# Altium footprint library Wurth_Elektronik_Passive_rev16a.PCBLIB: 810 footprints (part 36 of 51)
Each footprint in its own frame and in the unit in brackets; x right, y up, seen from the top. Pads: shape width x height; smd on the part's side, far side on the other; paste and mask are expansions set on the pad; w line width, h text height; cw(c..) or ccw(c..) is an arc to the next point about the centre after c.
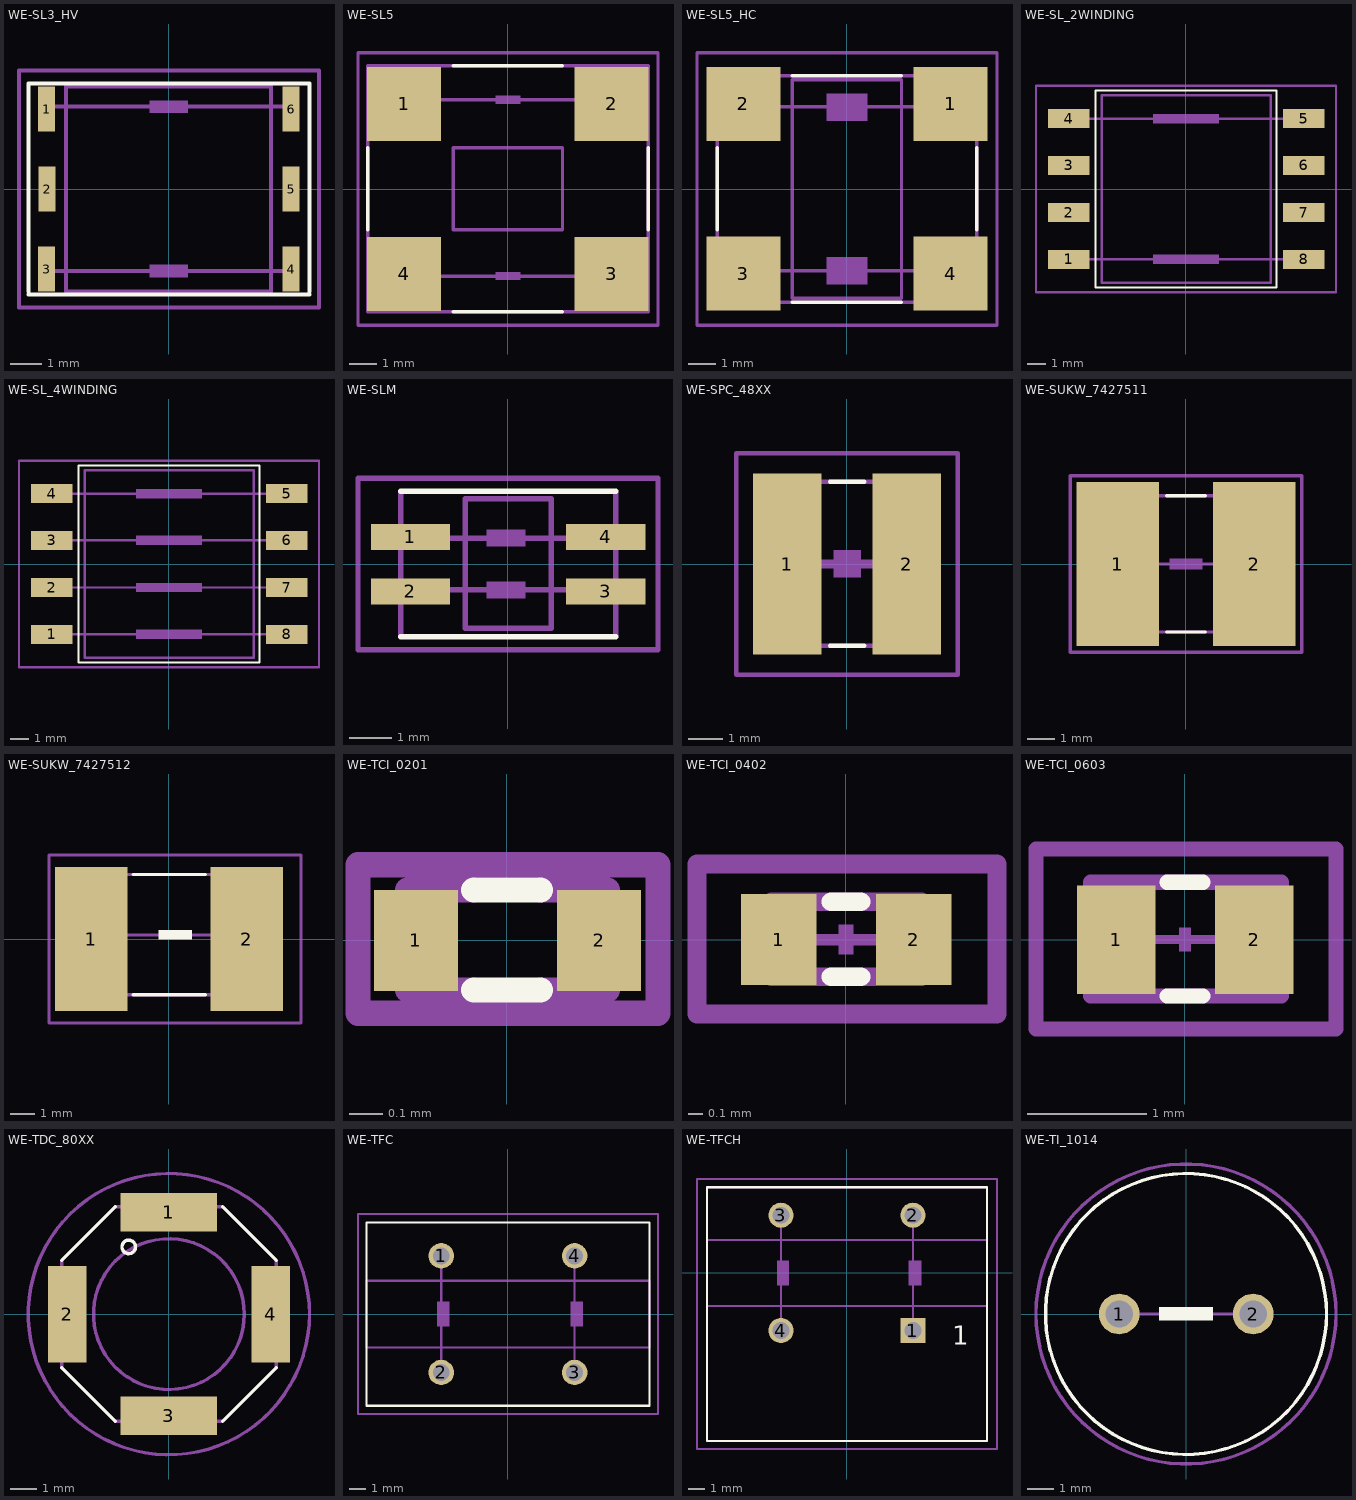
[diagram p35: the footprints below, top view; thin cyan lines are the x and y axes]

## WE-SL3_HV [mil]
pads (6):
  rect 21x56 smd: 1(-152.56,100) 2(-151.85,0) 3(-152.56,-100) 4(153,-100) 5(153,0) 6(153,100)
Top Overlay:
  lines w5: -175.2,-131.89 176,-131.89 ; -175.2,-127.95 -175.2,130 ; -175.2,132 176,132 ; 176,-127.95 176,130
Mechanical 2:
  text ">NAME" at -110.24,150 h77.5
Mechanical 4:
  text ">VALUE" at -110.24,-196.85 h77.5
Mechanical 10:
  lines w5: -127.95,-127.95 128,-127.95 128,128 -127.95,128 -127.95,-127.95
Mechanical 16:
  rectangle: -23.62,-110.24 24,-94.49
  rectangle: -23.62,95 24,111
  lines w5: -149.61,-102.36 -23.62,-102.36 ; -149.61,103 -23.62,103 ; 24,-102.36 150,-102.36 ; 24,103 150,103
Mechanical 27:
  lines w5: -187.01,-147.64 188,-147.64 188,148 -187.01,148 -187.01,-147.64

## WE-SL5 [mil]
pads (4):
  rect 107x107 smd: 1(-150,123) 2(150,123) 3(150,-122.44) 4(-150,-122.44)
Top Overlay:
  lines w5: -202.76,-59.06 -202.76,60 ; -78.74,-177.17 79,-177.17 ; -78.74,178 79,178 ; 203,-59.06 203,60
Mechanical 2:
  text ">NAME" at -200,200 h77.5
Mechanical 4:
  text ">VALUE" at -200,-250 h77.5
Mechanical 10:
  lines w5: -78.74,-59.06 79,-59.06 79,60 -78.74,60 -78.74,-59.06
Mechanical 16:
  rectangle: -17.72,123 18,135
  rectangle: -17.72,-131.5 18,-119.68
  lines w5: -153.15,-125.98 146,-125.98 ; -144.49,129 160,129 ; -202.76,-177.17 -202.76,178 203,178 203,-177.17 -202.76,-177.17
Mechanical 27:
  lines w5: -216.54,-196.85 217,-196.85 217,197 -216.54,197 -216.54,-196.85

## WE-SL5_HC [mil]
pads (4):
  rect 107x107 smd: 1(150,123) 2(-149.61,123) 3(-149.61,-122.05) 4(150,-122.05)
Top Overlay:
  lines w5: -187.01,-59.06 -187.01,60 ; -78.74,-163.39 79,-163.39 ; -78.74,164 79,164 ; 188,-59.06 188,60
Mechanical 2:
  text ">NAME" at -196.85,219 h77.5
Mechanical 4:
  text ">VALUE" at -196.85,-277.17 h77.5
Mechanical 10:
  lines w5: -78.74,-157.48 79,-157.48 79,158 -78.74,158 -78.74,-157.48
Mechanical 16:
  region: -29.34,138.34 -29.34,98.66 29.66,98.66 29.66,138.34
  region: -29.37,-98.27 -29.37,-137.95 29.69,-137.95 29.69,-98.27
  lines w5: -137.8,-118.11 138,-118.11 ; -137.8,119 138,119 ; -187.01,-163.39 -187.01,164 188,164 188,-163.39 -187.01,-163.39
Mechanical 27:
  lines w5: -216.54,-196.85 217,-196.85 217,197 -216.54,197 -216.54,-196.85

## WE-SL_2WINDING [mil]
pads (8):
  rect 87x40 smd: 1(-246.06,-147.64) 2(-246.06,-49.21) 3(-246.06,50) 4(-246.06,148) 5(247,148) 6(247,50) 7(247,-49.21) 8(247,-147.64)
Top Overlay:
  lines w5: -189.96,-206.69 190,-206.69 190,207 -189.96,207 -189.96,-206.69
Mechanical 2:
  text ">NAME" at 150,288 h77.5
Mechanical 4:
  text ">VALUE" at 150,-237.5 h77.5
Mechanical 10:
  lines w5: -177.17,-196.85 178,-196.85 178,197 -177.17,197 -177.17,-196.85
Mechanical 16:
  region: 69,-137.79 -68.9,-137.79 -68.9,-157.48 69,-157.48
  region: 69,158 -68.9,158 -68.9,138 69,138
  lines w5: -246.06,-147.64 247,-147.64 ; -246.06,148 247,148
Mechanical 27:
  lines w5: -314.96,-216.54 315,-216.54 315,217 -314.96,217 -314.96,-216.54

## WE-SL_4WINDING [mil]
pads (8):
  rect 87x40 smd: 1(-246.06,-147.64) 2(-246.06,-49.21) 3(-246.06,50) 4(-246.06,148) 5(247,148) 6(247,50) 7(247,-49.21) 8(247,-147.64)
Top Overlay:
  lines w5: -189.96,-206.69 190,-206.69 190,207 -189.96,207 -189.96,-206.69
Mechanical 2:
  text ">NAME" at 150,288 h77.5
Mechanical 4:
  text ">VALUE" at 150,-237.5 h77.5
Mechanical 10:
  lines w5: -177.17,-196.85 178,-196.85 178,197 -177.17,197 -177.17,-196.85
Mechanical 16:
  region: 69,-137.79 -68.9,-137.79 -68.9,-157.48 69,-157.48
  region: 69,-39.37 -68.9,-39.37 -68.9,-59.06 69,-59.06
  region: 69,60 -68.9,60 -68.9,40 69,40
  region: 69,158 -68.9,158 -68.9,138 69,138
  lines w5: -246.06,-147.64 247,-147.64 ; -246.06,-49.21 247,-49.21 ; -246.06,50 247,50 ; -246.06,148 247,148
Mechanical 27:
  lines w5: -314.96,-216.54 315,-216.54 315,217 -314.96,217 -314.96,-216.54

## WE-SLM [mil]
pads (4):
  rect 73x24 smd: 1(-89.57,25) 2(-89.57,-25) 3(90,-25) 4(90,25)
Top Overlay:
  lines w5: -98.43,-66.93 99,-66.93 ; -98.43,67 99,67
Mechanical 2:
  text ">NAME" at -141.73,99 h77.5
Mechanical 4:
  text ">VALUE" at -129.92,-145.67 h77.5
Mechanical 10:
  lines w5: -39.37,-59.06 40,-59.06 40,60 -39.37,60 -39.37,-59.06
Mechanical 16:
  rectangle: -19.68,16 16,32
  rectangle: -19.68,-31.5 16,-15.74
  lines w5: -98.43,-64.96 -98.43,65 ; -86.61,-23.62 87,-23.62 ; -86.61,24 87,24 ; 99,-64.96 99,65
Mechanical 27:
  lines w5: -137.8,-78.74 138,-78.74 138,79 -137.8,79 -137.8,-78.74

## WE-SPC_48XX [mil]
pads (2):
  rect 79x209 smd: 1(-68.9,0) 2(69,0)
Top Overlay:
  lines w5: -19.68,-94.49 20,-94.49 ; -19.68,95 20,95
Mechanical 2:
  text ">NAME" at -150,-200 h77.5
Mechanical 4:
  text ">VALUE" at -150,150 h77.5
Mechanical 16:
  region: 16,-15.75 16,16 -15.75,16 -15.75,-15.75
  lines w5: -94.49,-94.49 95,-94.49 95,95 -94.49,95 -94.49,-94.49
  lines w10: -68.9,0 69,0
Mechanical 27:
  lines w5: -127.95,-127.95 128,-127.95 128,128 -127.95,128 -127.95,-127.95

## WE-SUKW_7427511 [mil]
pads (2):
  rect 119x237 smd: 1(-98.43,0) 2(99,0)
Top Overlay:
  lines w5: -27.56,-98.43 28,-98.43 ; -27.56,99 28,99
Mechanical 2:
  text ">NAME" at -200,-225 h77.5
Mechanical 4:
  text ">VALUE" at -200,175 h77.5
Mechanical 16:
  rectangle: -23.62,-7.87 24,8
  lines w5: -137.8,-59.06 -137.8,-98.43 138,-98.43 138,-59.06 ; -137.8,60 -137.8,99 138,99 138,60 ; -98.43,0 99,0
Mechanical 27:
  lines w5: -167.32,-127.95 168,-127.95 168,128 -167.32,128 -167.32,-127.95

## WE-SUKW_7427512 [mil]
pads (2):
  rect 119x237 smd: 1(-127.95,0) 2(128,0)
Top Overlay:
  rectangle: -17.22,-0.98 38,15
  lines w5: -59.06,-91.54 60,-91.54 ; -59.06,106 60,106
Mechanical 2:
  text ">NAME" at -109.35,-194.09 h77.5
Mechanical 4:
  text ">VALUE" at -118.6,163 h77.5
Mechanical 16:
  lines w5: -117.62,7 137,7 ; -156.99,-91.54 178,-91.54 178,106 -156.99,106 -156.99,-91.54
Mechanical 27:
  lines w5: -196.85,-137.8 217,-137.8 217,138 -196.85,138 -196.85,-137.8

## WE-TCI_0201 [mil]
pads (2):
  rect 10x12 smd: 1(-10.83,0) 2(11,0)
Top Overlay:
  lines w3: -3.94,-5.91 4,-5.91 ; -3.94,6 4,6
Mechanical 2:
  text ">NAME" at -111.81,15 h77.5
Mechanical 4:
  text ">VALUE" at -115.75,-72.44 h77.5
Mechanical 16:
  lines w3: -3.94,-5.91 -11.81,-5.91 -11.81,6 -3.94,6 ; 4,-5.91 12,-5.91 12,6 4,6
Mechanical 27:
  lines w3: -17.72,-8.66 18,-8.66 18,9 -17.72,9 -17.72,-8.66

## WE-TCI_0402 [mil]
pads (2):
  rect 20x24 smd: 1(-17.72,0) 2(18,0)
Top Overlay:
  lines w5: -3.94,-9.84 4,-9.84 ; -3.94,10 4,10
Mechanical 2:
  text ">NAME" at -34.84,-34.84 h15.5
Mechanical 4:
  text ">VALUE" at -34.84,28 h15.5
Mechanical 16:
  region: 2.02,-3.95 2.02,3.98 -1.95,3.98 -1.95,-3.95
  lines w3: -17.72,0 18,0
  lines w5: -19.68,-9.84 20,-9.84 20,10 -19.68,10 -19.68,-9.84
Mechanical 27:
  lines w5: -39.37,-19.68 40,-19.68 40,20 -39.37,20 -39.37,-19.68

## WE-TCI_0603 [mil]
pads (2):
  rect 26x36 smd: 1(-22.64,0) 2(23,0)
Top Overlay:
  lines w5: -5.91,-18.62 6,-18.62 ; -5.91,19 6,19
Mechanical 2:
  text ">NAME" at -34.84,-47.34 h15.5
Mechanical 4:
  text ">VALUE" at -34.84,35 h15.5
Mechanical 16:
  region: 2.02,-3.95 2.02,3.98 -1.95,3.98 -1.95,-3.95
  lines w3: -22.64,0 23,0
  lines w5: -31.13,-18.62 32,-18.62 32,19 -31.13,19 -31.13,-18.62
Mechanical 27:
  lines w5: -49.21,-29.53 50,-29.53 50,30 -49.21,30 -49.21,-29.53

## WE-TDC_80XX [mil]
pads (4):
  rect 142x56 smd: 1(0,150) 3(0,-149.61)
  rect 56x142 smd: 2(-149.61,0) 4(150,0)
Top Overlay:
  circle w5: c-59.06,99 r10
  lines w5: -157.48,-78.74 -78.74,-157.48 ; -157.48,79 -78.74,158 ; 79,-157.48 158,-78.74 ; 79,158 158,79
Mechanical 2:
  text ">NAME" at -196.85,-118.11 h77.5
Mechanical 4:
  text ">VALUE" at 197,119 h77.5
Mechanical 10:
  circle w5: c0,0 r111
Mechanical 16:
  lines w5: -157.48,-78.74 -157.48,79 ; -78.74,-157.48 79,-157.48 ; -78.74,158 79,158 ; 158,-78.74 158,79
  text "1" at -19.68,99 h77.5
  text "2" at -147.64,-9.84 h77.5
  text "3" at -19.68,-147.64 h77.5
  text "4" at 109,-9.84 h77.5
Mechanical 27:
  circle w5: c0,0 r207

## WE-TFC [mil]
pads (4):
  round 60 hole 40: 1(-157.48,138) 2(-157.48,-137.8) 3(158,-137.8) 4(158,138)
Top Overlay:
  lines w5: -334.65,-216.54 335,-216.54 335,217 -334.65,217 -334.65,-216.54
Mechanical 2:
  text ">NAME" at -405.17,391 h77.5
Mechanical 4:
  text ">VALUE" at -405.17,-460.01 h77.5
Mechanical 10:
  lines w5: -334.65,-78.74 335,-78.74 335,79 -334.65,79 -334.65,-78.74
Mechanical 16:
  rectangle: -167.32,-29.53 -137.8,30
  rectangle: 148,-29.53 178,30
  lines w5: -157.48,-137.8 -157.48,138 ; 158,-137.8 158,138
Mechanical 27:
  lines w5: -354.33,-236.22 355,-236.22 355,237 -354.33,237 -354.33,-236.22

## WE-TFCH [mil]
pads (4):
  rect 60x60 hole 40: 1(158,-137.8)
  round 60 hole 40: 2(158,138) 3(-157.48,138) 4(-157.48,-137.8)
Top Overlay:
  lines w5: -334.65,-401.57 335,-401.57 335,205 -334.65,205 -334.65,-401.57
  text "1" at 252,-187.5 h77.5
Mechanical 2:
  text ">NAME" at -305.17,241 h77.5
Mechanical 4:
  text ">VALUE" at -305.17,-510.01 h77.5
Mechanical 10:
  lines w5: -334.65,-78.74 335,-78.74 335,79 -334.65,79 -334.65,-78.74
Mechanical 16:
  rectangle: -167.32,-29.53 -137.8,30
  rectangle: 148,-29.53 178,30
  lines w5: -157.48,-137.8 -157.48,138 ; 158,-137.8 158,138 ; -334.65,-401.57 -334.65,205 335,205 335,-401.57 -334.65,-401.57
  text "1" at 252,-187.5 h77.5
Mechanical 27:
  lines w5: -358.27,-421.26 359,-421.26 359,225 -358.27,225 -358.27,-421.26

## WE-TI_1014 [mil]
pads (2):
  round 60 hole 40: 1(-98.43,0) 2(99,0)
Top Overlay:
  circle w5: c0,0 r207
  region: 39.76,-9.61 39.76,10.24 -39.61,10.24 -39.61,-9.61
Mechanical 2:
  text ">NAME" at -150,-275 h77.5
Mechanical 4:
  text ">VALUE" at -150,225 h77.5
Mechanical 16:
  lines w5: -98.43,0 99,0
Mechanical 27:
  circle w5: c0,0 r221